# Altium schematic symbol library BIPOLAR-NPN-BEC.SchLib: 1 symbol
Pins are listed as number, name and electrical type; pins without a type are passive.

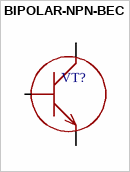
[diagram p0: symbol BIPOLAR-NPN-BEC]

## BIPOLAR-NPN-BEC
designator VT?
pins: 1 B, 2 E, 3 C